# Altium schematic symbol library 2171790001.SchLib: 1 symbol
Pins are listed as number, name and electrical type; pins without a type are passive.

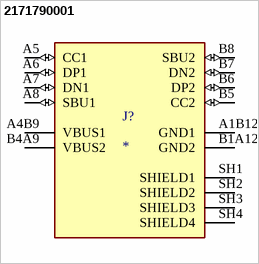
[diagram p0: symbol 2171790001]

## 2171790001
designator J?
USB Type C - Connector, Top-mount SMT, 16pos | Molex Incorporated 217179-0001; SnapEDA_Link: https://www.snapeda.com/parts/217179-0001/Molex/view-part/?ref=snap; Package: None; Value: *; MF: Molex; MP: 217179-0001; Check_prices: https://www.snapeda.com/parts/217179-0001/Molex/view-part/?ref=eda
footprint MOLEX_2171790001
pins: A1B12 GND1 (power), A4B9 VBUS1 (power), A5 CC1 (io), A6 DP1 (io), A7 DN1 (io), A8 SBU1 (io), B1A12 GND2 (power), B4A9 VBUS2 (power), B5 CC2 (io), B6 DP2 (io), B7 DN2 (io), B8 SBU2 (io), SH1 SHIELD1, SH2 SHIELD2, SH3 SHIELD3, SH4 SHIELD4